# EAGLE library part WE-LAN_10G_749052014 (library Wurth_Signal & Communications_WE-LAN_10G)
WE-LAN 10G Transformer 10Gbit Base-T Characteristics Power over Ethernet up to 150 Watts and speeds up to 10 Gbit/s Available in SMD Compliant with standards: IEEE 802.3an, IEEE 802.3af, IEEE 802.3at and upcoming IEEE 802.3bt Applications Suitable for industrial temperatures from –40 °C up to +85 °C Compatible to Industrial Ethernet systems like EtherCAT or Profinet Compliant with most IC’s for Ethernet applications such as Microchip, Texas Instruments, Broadcom, Linear Technology Hubs, Routers, Switches, IP cameras, IoT applications HDBaseT <https://katalog.we-online.com/media/images/v2/o84657v209%20WE-LAN_749050010-749052012_4C%20-%20Kopie.jpg> Details see: https://katalog.we-online.com/en/pbs/WE-LAN-10G Updated by Ella Wu 2019-07-22 2019 (C) Würth Elektronik
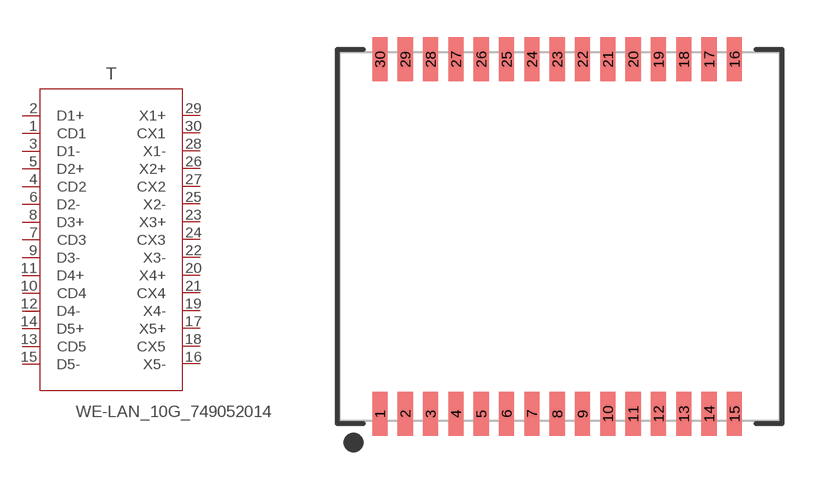
[diagram p2: symbol with the pads of WE-LAN_10G_749052014; footprint WE-LAN_10G_749052014]

Designator prefix T

## WE-LAN_10G_749052014 (DATA-RATE: 10G Base-T; DATASHEET-URL: https://katalog.we-online.com/pbs/datasheet/749052014.pdf; HPLE: No; L: 180uH; MOUNT: SMT; PART-NUMBER: 749052014; POE: non-PoE; PORTS: 1; VT: 1500 V (RMS))  [WE-LAN_10G_749052014]
1  CD1
2  D1+
3  D1-
4  CD2
5  D2+
6  D2-
7  CD3
8  D3+
9  D3-
10  CD4
11  D4+
12  D4-
13  CD5
14  D5+
15  D5-
16  X5-
17  X5+
18  CX5
19  X4-
20  X4+
21  CX4
22  X3-
23  X3+
24  CX3
25  X2-
26  X2+
27  CX2
28  X1-
29  X1+
30  CX1

## Footprint WE-LAN_10G_749052014 (pad centres in mm)
WE-LAN 10G Transformer 10Gbit Base-T
smd 0.61 x 1.78: 1 -7.24,-7.14; 2 -6.22,-7.14; 3 -5.2,-7.14; 4 -4.18,-7.14; 5 -3.16,-7.14; 6 -2.14,-7.14; 7 -1.12,-7.14; 8 -0.1,-7.14; 9 0.92,-7.14; 10 1.94,-7.14; 11 2.96,-7.14; 12 3.98,-7.14; 13 5,-7.14; 14 6.02,-7.14; 15 7.04,-7.14; 16 7.04,7.14; 17 6.02,7.14; 18 5,7.14; 19 3.98,7.14; 20 2.96,7.14; 21 1.94,7.14; 22 0.92,7.14; 23 -0.1,7.14; 24 -1.12,7.14; 25 -2.14,7.14; 26 -3.16,7.14; 27 -4.18,7.14; 28 -5.2,7.14; 29 -6.22,7.14; 30 -7.24,7.14